# EAGLE library part 62100621821 (library Wuerth_Elektronik_eiCan_Pin_&_Socked_Headers_v1.3)
WR-PHD 2.00mm Dual SMT Socket Header Low Profile, 6 Pins
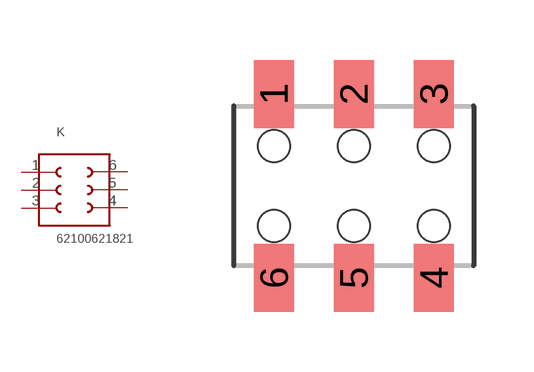
[diagram p312: symbol with the pads of 62100621821; footprint 62100621821]

Designator prefix K

## 62100621821  [62100621821]
1  1  pas
2  2  pas
3  3  pas
4  4  pas
5  5  pas
6  6  pas

## Footprint 62100621821 (pad centres in mm)
WR-PHD 2.00mm Dual SMT Socket Header Low Profile, 6 Pins
smd 1 x 1.7: 1 -2,2.3; 2 0,2.3; 3 2,2.3; 4 2,-2.3; 5 0,-2.3; 6 -2,-2.3
hole 0.8 at 0,1
hole 0.8 at -2,1
hole 0.8 at -2,-1
hole 0.8 at 0,-1
hole 0.8 at 2,1
hole 0.8 at 2,-1